# EAGLE library part PSU_NET-35C (library baoOldcolors)
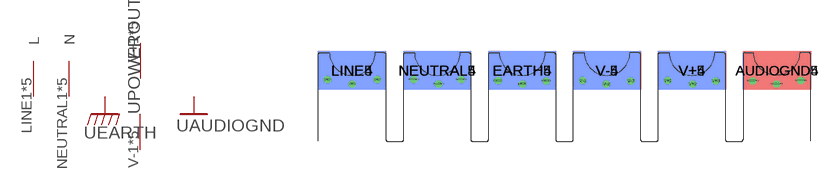
[diagram p6: symbol with the pads of PSU_NET35C_B; footprint PSU_NET35C_B]

Designator prefix -; gates POWEROUT=PWR+- AUDIOGND=GND L=L N=N EARTH=EARTH

## PSU_NET-35C  [PSU_NET35C_B]
AUDIOGND1  AUDIOGND:GND  sup
AUDIOGND2  AUDIOGND:GND  sup
AUDIOGND3  AUDIOGND:GND  sup
AUDIOGND4  AUDIOGND:GND  sup
AUDIOGND5  AUDIOGND:GND  sup
EARTH1  EARTH:GND  sup
EARTH2  EARTH:GND  sup
EARTH3  EARTH:GND  sup
EARTH4  EARTH:GND  sup
EARTH5  EARTH:GND  sup
LINE1  L:L  pwr
LINE2  L:L  pwr
LINE3  L:L  pwr
LINE4  L:L  pwr
LINE5  L:L  pwr
NEUTRAL1  N:N  pwr
NEUTRAL2  N:N  pwr
NEUTRAL3  N:N  pwr
NEUTRAL4  N:N  pwr
NEUTRAL5  N:N  pwr
V+1  POWEROUT:V+  pwr
V+2  POWEROUT:V+  pwr
V+3  POWEROUT:V+  pwr
V+4  POWEROUT:V+  pwr
V+5  POWEROUT:V+  pwr
V-1  POWEROUT:V-  pwr
V-2  POWEROUT:V-  pwr
V-3  POWEROUT:V-  pwr
V-4  POWEROUT:V-  pwr
V-5  POWEROUT:V-  pwr

## Footprint PSU_NET35C_B (pad centres in mm)
drill 0.3 octagon: AUDIOGND1 44.831,-3.2; AUDIOGND2 47.498,-3.556; AUDIOGND3 50.216,-3.175; EARTH1 16.307,-3.175; EARTH2 19.05,-3.556; EARTH3 21.692,-3.2; LINE1 -2.794,-3.048; LINE2 0,-3.556; LINE3 2.794,-3.048; NEUTRAL1 6.858,-3.048; NEUTRAL2 9.652,-3.556; NEUTRAL3 12.192,-3.048; V+1 35.306,-3.175; V+2 38.1,-3.556; V+3 40.691,-3.2; V-1 25.806,-3.175; V-2 28.448,-3.556; V-3 31.191,-3.2
smd 7.62 x 4.318: AUDIOGND4 47.549,-2.032; EARTH4 19.025,-2.032; LINE4 -0.025,-2.032; NEUTRAL4 9.525,-2.032; V+4 38.024,-2.032; V-4 28.524,-2.032
smd 7.62 x 4.318 bottom: AUDIOGND5 47.523,-2.032; EARTH5 18.999,-2.032; LINE5 -0.051,-2.032; NEUTRAL5 9.5,-2.032; V+5 37.998,-2.032; V-5 28.499,-2.032